# EAGLE library part ADP-2-4 (library minicircuits)
Power Splitter/Combiner 2 Way-0° 50 R Aqueous washable. For non-aquesous requirements, LRPS units available in case style QQQ130. Internal load dissipation: 0.125 Watt Matched power rating: 1 Watt Non-hermetic Pins 2 & 5 must be connected together on PC board ADP-2-4 2 Way-0° Frequency MHz Isolation, dB Insertion Loss, dB Above 3.0dB Phase Unbalance Degrees Amplitude Unbalance, dB Power Input, W fL - fU L Typ. Min. M Typ. Min. U Typ. Min. L Typ. Max. M Typ. Max. U Typ. Max. L Max. M Max. U Max. L Max. M Max. U Max. as Combiner Max. as Splitter Max. 10-1000 25 20 23 16 19 14 0.30 0.50 0.40 0.90 0.80 1.50 1.00 3.00 5.00 0.15 0.20 0.40 1.00 L=low range(fL to 10fL) M=mid range(10fL to fU/2) U=upper range(fU/2 to fU) FREQ (MHz) Insertion Loss Amplitude Unbalance (dB) Isolation Phase Unbalance (Degrees) FREQ (MHz) VSWR S VSWR 1 VSWR 2 (dB) S-1 (dB) S-2 (dB) 1-2 10.00 3.27 3.26 0.010 29.66 0.03 10.00 1.12 1.27 1.27 14.00 3.27 3.27 0.000 29.81 0.01 14.00 1.11 1.26 1.26 18.00 3.25 3.26 0.010 29.60 0.04 18.00 1.11 1.25 1.25 20.00 3.25 3.25 0.000 29.44 0.01 20.00 1.11 1.25 1.25 24.00 3.25 3.26 0.000 29.15 0.06 24.00 1.11 1.25 1.25 28.00 3.25 3.25 0.000 28.91 0.02 28.00 1.11 1.25 1.25 30.00 3.25 3.25 0.000 28.79 0.05 30.00 1.11 1.25 1.25 34.00 3.25 3.26 0.000 28.56 0.02 34.00 1.11 1.25 1.24 38.00 3.25 3.25 0.000 28.35 0.05 38.00 1.11 1.24 1.24 40.00 3.25 3.25 0.000 28.25 0.05 40.00 1.11 1.24 1.24 45.00 3.25 3.25 0.000 28.04 0.02 45.00 1.11 1.24 1.24 50.00 3.26 3.26 0.000 27.85 0.05 50.00 1.12 1.24 1.24 55.00 3.26 3.26 0.000 27.64 0.05 55.00 1.12 1.24 1.24 60.00 3.26 3.25 0.010 27.48 0.02 60.00 1.12 1.24 1.24 65.00 3.27 3.25 0.010 27.32 0.10 65.00 1.13 1.24 1.24 70.00 3.25 3.25 0.000 27.17 0.10 70.00 1.13 1.24 1.24 75.00 3.25 3.24 0.000 27.05 0.05 75.00 1.13 1.25 1.24 80.00 3.24 3.25 0.000 26.93 0.06 80.00 1.13 1.25 1.24 85.00 3.23 3.23 0.000 26.75 0.08 85.00 1.14 1.25 1.24 90.00 3.23 3.23 0.000 26.64 0.13 90.00 1.14 1.25 1.24 95.00 3.23 3.23 0.000 26.51 0.14 95.00 1.14 1.25 1.24 100.00 3.22 3.22 0.000 26.35 0.13 100.00 1.15 1.25 1.25 150.00 3.33 3.32 0.000 25.37 0.22 150.00 1.18 1.26 1.25 200.00 3.30 3.30 0.000 24.51 0.21 200.00 1.22 1.27 1.26 250.00 3.35 3.34 0.010 23.57 0.21 250.00 1.25 1.28 1.27 300.00 3.42 3.41 0.010 22.98 0.30 300.00 1.29 1.30 1.28 350.00 3.38 3.36 0.020 22.19 0.32 350.00 1.32 1.31 1.30 400.00 3.53 3.52 0.010 21.78 0.36 400.00 1.36 1.33 1.31 450.00 3.50 3.48 0.020 21.28 0.40 450.00 1.39 1.34 1.32 500.00 3.56 3.53 0.030 20.95 0.44 500.00 1.42 1.36 1.33 550.00 3.58 3.55 0.030 20.65 0.50 550.00 1.44 1.37 1.34 600.00 3.61 3.57 0.040 20.43 0.49 600.00 1.46 1.38 1.35 650.00 3.66 3.60 0.050 20.35 0.54 650.00 1.48 1.39 1.35 700.00 3.69 3.63 0.070 20.39 0.62 700.00 1.49 1.40 1.35 750.00 3.66 3.59 0.070 20.40 0.67 750.00 1.49 1.40 1.35 800.00 3.87 3.79 0.080 20.86 0.70 800.00 1.48 1.40 1.35 850.00 3.72 3.62 0.100 21.23 0.76 850.00 1.46 1.39 1.34 900.00 3.84 3.75 0.090 21.83 0.84 900.00 1.43 1.39 1.33 950.00 3.94 3.82 0.120 23.04 0.78 950.00 1.39 1.38 1.31 1000.00 4.01 3.88 0.130 24.55 0.90 1000.00 1.34 1.37 1.30
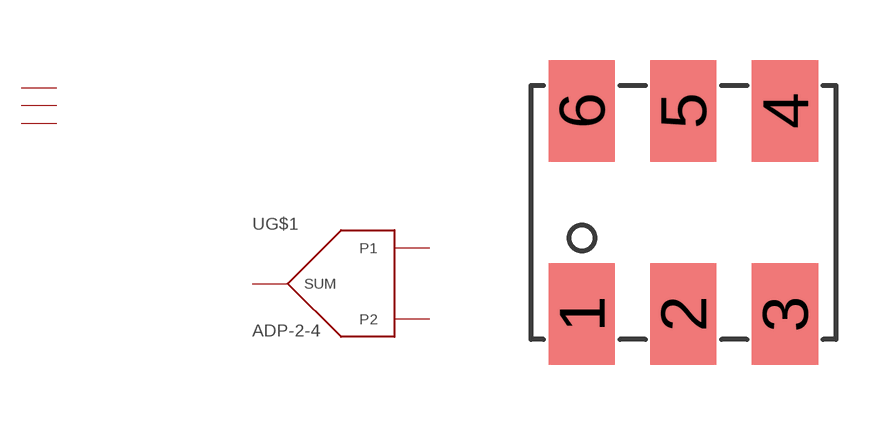
[diagram p15: symbol with the pads of CD636; footprint CD636]

Designator prefix -; gates G$1=POWER_SPLITTER-2W G$2=GND G$3=NC G$4=NC

## ADP-2-4  [CD636]
1  G$1:SUM
2  G$4:NC  nc
3  G$1:P1
4  G$1:P2
5  G$3:NC  nc
6  G$2:GND  pwr

## Footprint CD636 (pad centres in mm)
CD636 http://www.minicircuits.com/cgi-bin/inquery.cgi?querystring=CD636&searchtype=case&x=21&y=7
smd 1.651 x 2.54: 1 0,0; 2 2.54,0; 3 5.08,0; 4 5.08,5.08; 5 2.54,5.08; 6 0,5.08